# Altium integrated library TI Data Converters Analog to Digital Converter.IntLib: 2198 symbols (part 78 of 164)
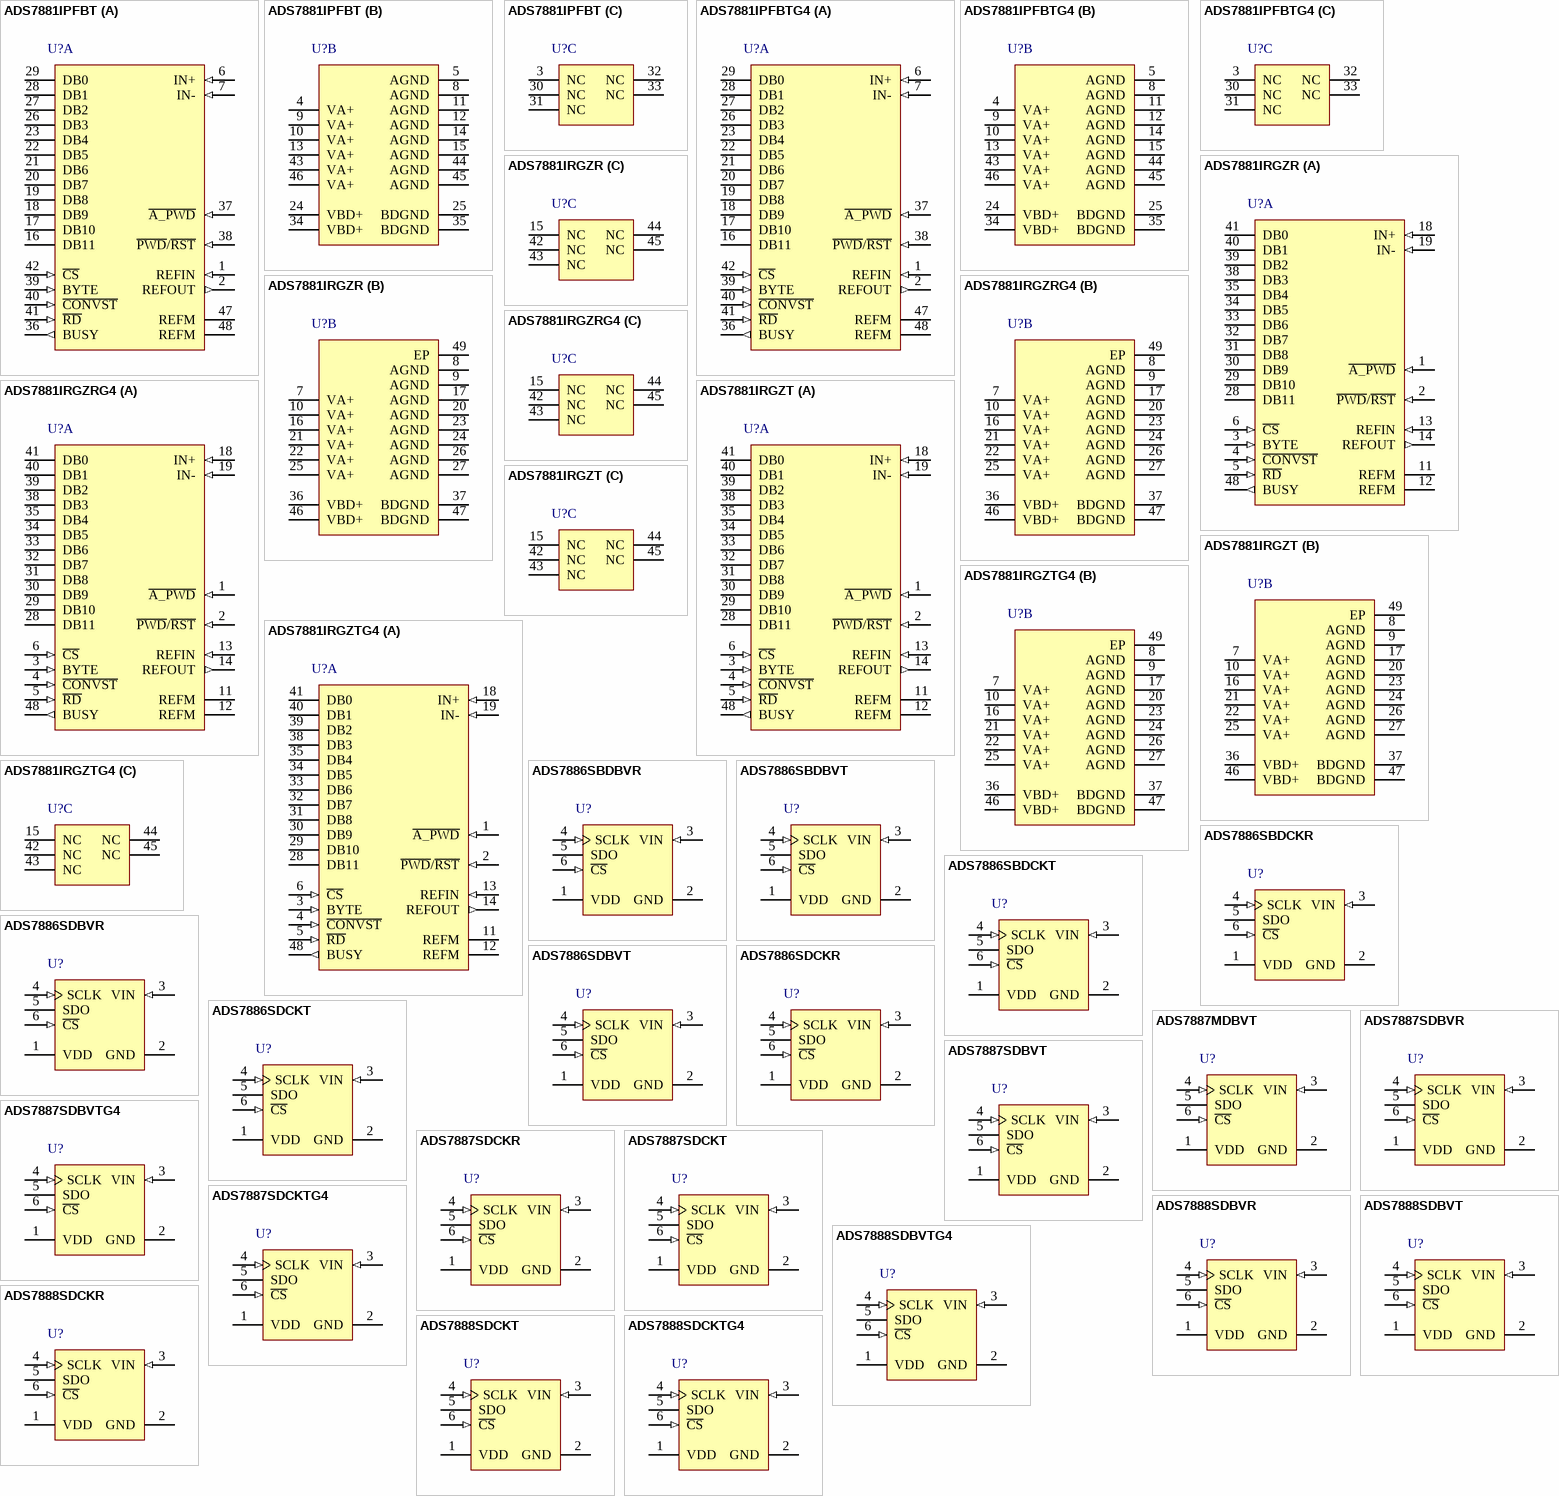
[diagram p203: symbols ADS7881IPFBT to ADS7888SDCKTG4]

## ADS7887SDBVR
designator U?
2.35 to 5.25 V, 10-Bit, 1.25 MSPS, Serial ADC, -40 to 125 degC, 6-pin SOT23 (DBV6), Pb-Free (RoHS Exempt); Manufacturer: Texas Instruments; PartNumber: ADS7887SDBVR; # Input Channels: 1; Analog Voltage AV/DD(Max)(V): 5.25; Analog Voltage AV/DD(Min)(V): 2.35; Architecture: SAR; INL(Max)(+/-LSB): 0.75; Interface: Serial SPI; Resolution(Bits): 10; Sample Rate (max)(SPS): 1.25M; SFDR(dB): 81; SINAD(dB): 61; SubFamily: Precision ADC (<=10MSPS); DatasheetVersion: SLAS468; PackageVersion: 4073253-5/K, 03/2006; PackageReference: DBV6; PackageDescription: 6-Pin Plastic Small Outline, Body 1.6 x 2.9 mm, Pitch 0.95 mm; Supplier 1: Digi-Key; Supplier Part Number 1: 296-1881-5-ND; Digital Supply(Max)(V): 5.25; Digital Supply(Min)(V): 2.35; Eco-Plan: Pb-Free (RoHS Exempt); SNR(dB): 61; Mounting Technology: Surface Mount; Code_JEDEC: MO-178; ComponentLink1Description: Manufacturer URL; ComponentLink1URL: http://www.ti.com/; ComponentLink2Description: Datasheet; ComponentLink2URL: http://www.ti.com/general/docs/lit/getliterature.tsp?genericPartNumber=ADS7887&fileType=pdf; ComponentLink3Description: Package Specification; ComponentLink3URL: http://www.ti.com/litv/pdf/mpds026h
footprint TI-DBV6_N (SOT23, 6-Leads, Body 2.9x1.6mm, Pitch 0.95mm, IPC Medium Density)
footprint TI-DBV6_L (SOT23, 6-Leads, Body 2.9x1.6mm, Pitch 0.95mm, IPC High Density)
footprint TI-DBV6_M (SOT23, 6-Leads, Body 2.9x1.6mm, Pitch 0.95mm, IPC Low Density)
pins: 1 VDD (power) "Power supply input also acts like a reference voltage to ADC.", 2 GND (power) "Ground for power supply, all analog and digital signals are referred with respect to this pin.", 3 VIN (in) "Analog signal input", 4 SCLK (in) "Serial clock", 5 SDO (hiz) "Serial data out", 6 ~{CS} (in) "Chip select signal, active low"

## ADS7887SDBVT
designator U?
2.35 to 5.25 V, 10-Bit, 1.25 MSPS, Serial ADC, -40 to 125 degC, 6-pin SOT23 (DBV6), Pb-Free (RoHS Exempt); Manufacturer: Texas Instruments; PartNumber: ADS7887SDBVT; # Input Channels: 1; Analog Voltage AV/DD(Max)(V): 5.25; Analog Voltage AV/DD(Min)(V): 2.35; Architecture: SAR; INL(Max)(+/-LSB): 0.75; Interface: Serial SPI; Resolution(Bits): 10; Sample Rate (max)(SPS): 1.25M; SFDR(dB): 81; SINAD(dB): 61; SubFamily: Precision ADC (<=10MSPS); DatasheetVersion: SLAS468; PackageVersion: 4073253-5/K, 03/2006; PackageReference: DBV6; PackageDescription: 6-Pin Plastic Small Outline, Body 1.6 x 2.9 mm, Pitch 0.95 mm; Supplier 1: Digi-Key; Supplier Part Number 1: TLV1570IDWG4-ND; Digital Supply(Max)(V): 5.25; Digital Supply(Min)(V): 2.35; Eco-Plan: Pb-Free (RoHS Exempt); SNR(dB): 61; Mounting Technology: Surface Mount; Code_JEDEC: MO-178; ComponentLink1Description: Manufacturer URL; ComponentLink1URL: http://www.ti.com/; ComponentLink2Description: Datasheet; ComponentLink2URL: http://www.ti.com/general/docs/lit/getliterature.tsp?genericPartNumber=ADS7887&fileType=pdf; ComponentLink3Description: Package Specification; ComponentLink3URL: http://www.ti.com/litv/pdf/mpds026h
footprint TI-DBV6_N (SOT23, 6-Leads, Body 2.9x1.6mm, Pitch 0.95mm, IPC Medium Density)
footprint TI-DBV6_L (SOT23, 6-Leads, Body 2.9x1.6mm, Pitch 0.95mm, IPC High Density)
footprint TI-DBV6_M (SOT23, 6-Leads, Body 2.9x1.6mm, Pitch 0.95mm, IPC Low Density)
pins: 1 VDD (power) "Power supply input also acts like a reference voltage to ADC.", 2 GND (power) "Ground for power supply, all analog and digital signals are referred with respect to this pin.", 3 VIN (in) "Analog signal input", 4 SCLK (in) "Serial clock", 5 SDO (hiz) "Serial data out", 6 ~{CS} (in) "Chip select signal, active low"

## ADS7887SDBVTG4
designator U?
2.35 to 5.25 V, 10-Bit, 1.25 MSPS, Serial ADC, -40 to 125 degC, 6-pin SOT23 (DBV6); Manufacturer: Texas Instruments; PartNumber: ADS7887SDBVTG4; # Input Channels: 1; Analog Voltage AV/DD(Max)(V): 5.25; Analog Voltage AV/DD(Min)(V): 2.35; Architecture: SAR; INL(Max)(+/-LSB): 0.75; Interface: Serial SPI; Resolution(Bits): 10; Sample Rate (max)(SPS): 1.25M; SFDR(dB): 81; SINAD(dB): 61; SubFamily: Precision ADC (<=10MSPS); DatasheetVersion: SLAS468; PackageVersion: 4073253-5/K, 03/2006; PackageReference: DBV6; PackageDescription: 6-Pin Plastic Small Outline, Body 1.6 x 2.9 mm, Pitch 0.95 mm; Supplier 1: Digi-Key; Supplier Part Number 1: 296-1882-5-ND; Digital Supply(Max)(V): 5.25; Digital Supply(Min)(V): 2.35; SNR(dB): 61; Mounting Technology: Surface Mount; Code_JEDEC: MO-178; ComponentLink1Description: Manufacturer URL; ComponentLink1URL: http://www.ti.com/; ComponentLink2Description: Datasheet; ComponentLink2URL: http://www.ti.com/general/docs/lit/getliterature.tsp?genericPartNumber=ADS7887&fileType=pdf; ComponentLink3Description: Package Specification; ComponentLink3URL: http://www.ti.com/litv/pdf/mpds026h
footprint TI-DBV6_N (SOT23, 6-Leads, Body 2.9x1.6mm, Pitch 0.95mm, IPC Medium Density)
footprint TI-DBV6_L (SOT23, 6-Leads, Body 2.9x1.6mm, Pitch 0.95mm, IPC High Density)
footprint TI-DBV6_M (SOT23, 6-Leads, Body 2.9x1.6mm, Pitch 0.95mm, IPC Low Density)
pins: 1 VDD (power) "Power supply input also acts like a reference voltage to ADC.", 2 GND (power) "Ground for power supply, all analog and digital signals are referred with respect to this pin.", 3 VIN (in) "Analog signal input", 4 SCLK (in) "Serial clock", 5 SDO (hiz) "Serial data out", 6 ~{CS} (in) "Chip select signal, active low"

## ADS7887SDCKR
designator U?
10-Bit, 1.25 MSPS, Serial ADC, -40 to 125 degC, 6-pin SOT23 (DCK6), Pb-Free (RoHS Exempt); Manufacturer: Texas Instruments; PartNumber: ADS7887SDCKR; # Input Channels: 1; Analog Voltage AV/DD(Max)(V): 5.25; Analog Voltage AV/DD(Min)(V): 2.35; Architecture: SAR; INL(Max)(+/-LSB): 0.75; Interface: Serial SPI; Resolution(Bits): 10; Sample Rate (max)(SPS): 1.25M; SFDR(dB): 81; SINAD(dB): 61; SubFamily: Precision ADC (<=10MSPS); DatasheetVersion: SLAS468; PackageVersion: 4093553-4/G, 01/2007; PackageReference: DCK6; PackageDescription: 6-Pin Plastic Small Outline, Body 2 x 1.25 mm, Pitch 0.65 mm; Supplier 1: Digi-Key; Supplier Part Number 1: TLV1570IPWG4-ND; Digital Supply(Max)(V): 5.25; Digital Supply(Min)(V): 2.35; Eco-Plan: Pb-Free (RoHS Exempt); SNR(dB): 61; Mounting Technology: Surface Mount; Code_JEDEC: MO-203; ComponentLink1Description: Manufacturer URL; ComponentLink1URL: http://www.ti.com/; ComponentLink2Description: Datasheet; ComponentLink2URL: http://www.ti.com/general/docs/lit/getliterature.tsp?genericPartNumber=ADS7887&fileType=pdf; ComponentLink3Description: Package Specification; ComponentLink3URL: http://www.ti.com/litv/pdf/mpds114c
footprint TI-DCK6_V (SOT23, 6-Leads, Body 2x1.25mm, Pitch 0.65mm)
pins: 1 VDD (power) "Power supply input also acts like a reference voltage to ADC.", 2 GND (power) "Ground for power supply, all analog and digital signals are referred with respect to this pin.", 3 VIN (in) "Analog signal input", 4 SCLK (in) "Serial clock", 5 SDO (hiz) "Serial data out", 6 ~{CS} (in) "Chip select signal, active low"

## ADS7887SDCKT
designator U?
10-Bit, 1.25 MSPS, Serial ADC, -40 to 125 degC, 6-pin SOT23 (DCK6), Pb-Free (RoHS Exempt); Manufacturer: Texas Instruments; PartNumber: ADS7887SDCKT; # Input Channels: 1; Analog Voltage AV/DD(Max)(V): 5.25; Analog Voltage AV/DD(Min)(V): 2.35; Architecture: SAR; INL(Max)(+/-LSB): 0.75; Interface: Serial SPI; Resolution(Bits): 10; Sample Rate (max)(SPS): 1.25M; SFDR(dB): 81; SINAD(dB): 61; SubFamily: Precision ADC (<=10MSPS); DatasheetVersion: SLAS468; PackageVersion: 4093553-4/G, 01/2007; PackageReference: DCK6; PackageDescription: 6-Pin Plastic Small Outline, Body 2 x 1.25 mm, Pitch 0.65 mm; Supplier 1: Digi-Key; Supplier Part Number 1: TLV1570IPWR-ND; Digital Supply(Max)(V): 5.25; Digital Supply(Min)(V): 2.35; Eco-Plan: Pb-Free (RoHS Exempt); SNR(dB): 61; Mounting Technology: Surface Mount; Code_JEDEC: MO-203; ComponentLink1Description: Manufacturer URL; ComponentLink1URL: http://www.ti.com/; ComponentLink2Description: Datasheet; ComponentLink2URL: http://www.ti.com/general/docs/lit/getliterature.tsp?genericPartNumber=ADS7887&fileType=pdf; ComponentLink3Description: Package Specification; ComponentLink3URL: http://www.ti.com/litv/pdf/mpds114c
footprint TI-DCK6_V (SOT23, 6-Leads, Body 2x1.25mm, Pitch 0.65mm)
pins: 1 VDD (power) "Power supply input also acts like a reference voltage to ADC.", 2 GND (power) "Ground for power supply, all analog and digital signals are referred with respect to this pin.", 3 VIN (in) "Analog signal input", 4 SCLK (in) "Serial clock", 5 SDO (hiz) "Serial data out", 6 ~{CS} (in) "Chip select signal, active low"

## ADS7887SDCKTG4
designator U?
10-Bit, 1.25 MSPS, Serial ADC, -40 to 125 degC, 6-pin SOT23 (DCK6); Manufacturer: Texas Instruments; PartNumber: ADS7887SDCKTG4; # Input Channels: 1; Analog Voltage AV/DD(Max)(V): 5.25; Analog Voltage AV/DD(Min)(V): 2.35; Architecture: SAR; INL(Max)(+/-LSB): 0.75; Interface: Serial SPI; Resolution(Bits): 10; Sample Rate (max)(SPS): 1.25M; SFDR(dB): 81; SINAD(dB): 61; SubFamily: Precision ADC (<=10MSPS); DatasheetVersion: SLAS468; PackageVersion: 4093553-4/G, 01/2007; PackageReference: DCK6; PackageDescription: 6-Pin Plastic Small Outline, Body 2 x 1.25 mm, Pitch 0.65 mm; Supplier 1: Digi-Key; Supplier Part Number 1: TLV1570IPWRG4-ND; Digital Supply(Max)(V): 5.25; Digital Supply(Min)(V): 2.35; SNR(dB): 61; Mounting Technology: Surface Mount; Code_JEDEC: MO-203; ComponentLink1Description: Manufacturer URL; ComponentLink1URL: http://www.ti.com/; ComponentLink2Description: Datasheet; ComponentLink2URL: http://www.ti.com/general/docs/lit/getliterature.tsp?genericPartNumber=ADS7887&fileType=pdf; ComponentLink3Description: Package Specification; ComponentLink3URL: http://www.ti.com/litv/pdf/mpds114c
footprint TI-DCK6_V (SOT23, 6-Leads, Body 2x1.25mm, Pitch 0.65mm)
pins: 1 VDD (power) "Power supply input also acts like a reference voltage to ADC.", 2 GND (power) "Ground for power supply, all analog and digital signals are referred with respect to this pin.", 3 VIN (in) "Analog signal input", 4 SCLK (in) "Serial clock", 5 SDO (hiz) "Serial data out", 6 ~{CS} (in) "Chip select signal, active low"

## ADS7888SDBVR
designator U?
2.35 to 5.25 V, 8-Bit, 1.25 MSPS, Serial ADC, -40 to 125 degC, 6-pin SOT23 (DBV6), Pb-Free (RoHS Exempt); Manufacturer: Texas Instruments; PartNumber: ADS7888SDBVR; # Input Channels: 1; Analog Voltage AV/DD(Max)(V): 5.25; Analog Voltage AV/DD(Min)(V): 2.35; Architecture: SAR; INL(Max)(+/-LSB): 0.3; Interface: Serial SPI; Resolution(Bits): 8; Sample Rate (max)(SPS): 1.25M; SFDR(dB): 77; SINAD(dB): 49.5; SubFamily: Precision ADC (<=10MSPS); DatasheetVersion: SLAS468; PackageVersion: 4073253-5/K, 03/2006; PackageReference: DBV6; PackageDescription: 6-Pin Plastic Small Outline, Body 1.6 x 2.9 mm, Pitch 0.95 mm; Supplier 1: Digi-Key; Supplier Part Number 1: 296-2966-5-ND; Digital Supply(Max)(V): 5.25; Digital Supply(Min)(V): 2.35; Eco-Plan: Pb-Free (RoHS Exempt); Mounting Technology: Surface Mount; Code_JEDEC: MO-178; ComponentLink1Description: Manufacturer URL; ComponentLink1URL: http://www.ti.com/; ComponentLink2Description: Datasheet; ComponentLink2URL: http://www.ti.com/general/docs/lit/getliterature.tsp?genericPartNumber=ADS7888&fileType=pdf; ComponentLink3Description: Package Specification; ComponentLink3URL: http://www.ti.com/litv/pdf/mpds026h
footprint TI-DBV6_N (SOT23, 6-Leads, Body 2.9x1.6mm, Pitch 0.95mm, IPC Medium Density)
footprint TI-DBV6_L (SOT23, 6-Leads, Body 2.9x1.6mm, Pitch 0.95mm, IPC High Density)
footprint TI-DBV6_M (SOT23, 6-Leads, Body 2.9x1.6mm, Pitch 0.95mm, IPC Low Density)
pins: 1 VDD (power) "Power supply input also acts like a reference voltage to ADC.", 2 GND (power) "Ground for power supply, all analog and digital signals are referred with respect to this pin.", 3 VIN (in) "Analog signal input", 4 SCLK (in) "Serial clock", 5 SDO (hiz) "Serial data out", 6 ~{CS} (in) "Chip select signal, active low"

## ADS7888SDBVT
designator U?
2.35 to 5.25 V, 8-Bit, 1.25 MSPS, Serial ADC, -40 to 125 degC, 6-pin SOT23 (DBV6), Pb-Free (RoHS Exempt); Manufacturer: Texas Instruments; PartNumber: ADS7888SDBVT; # Input Channels: 1; Analog Voltage AV/DD(Max)(V): 5.25; Analog Voltage AV/DD(Min)(V): 2.35; Architecture: SAR; INL(Max)(+/-LSB): 0.3; Interface: Serial SPI; Resolution(Bits): 8; Sample Rate (max)(SPS): 1.25M; SFDR(dB): 77; SINAD(dB): 49.5; SubFamily: Precision ADC (<=10MSPS); DatasheetVersion: SLAS468; PackageVersion: 4073253-5/K, 03/2006; PackageReference: DBV6; PackageDescription: 6-Pin Plastic Small Outline, Body 1.6 x 2.9 mm, Pitch 0.95 mm; Supplier 1: Digi-Key; Supplier Part Number 1: TLV1562CPWG4-ND; Digital Supply(Max)(V): 5.25; Digital Supply(Min)(V): 2.35; Eco-Plan: Pb-Free (RoHS Exempt); Mounting Technology: Surface Mount; Code_JEDEC: MO-178; ComponentLink1Description: Manufacturer URL; ComponentLink1URL: http://www.ti.com/; ComponentLink2Description: Datasheet; ComponentLink2URL: http://www.ti.com/general/docs/lit/getliterature.tsp?genericPartNumber=ADS7888&fileType=pdf; ComponentLink3Description: Package Specification; ComponentLink3URL: http://www.ti.com/litv/pdf/mpds026h
footprint TI-DBV6_N (SOT23, 6-Leads, Body 2.9x1.6mm, Pitch 0.95mm, IPC Medium Density)
footprint TI-DBV6_L (SOT23, 6-Leads, Body 2.9x1.6mm, Pitch 0.95mm, IPC High Density)
footprint TI-DBV6_M (SOT23, 6-Leads, Body 2.9x1.6mm, Pitch 0.95mm, IPC Low Density)
pins: 1 VDD (power) "Power supply input also acts like a reference voltage to ADC.", 2 GND (power) "Ground for power supply, all analog and digital signals are referred with respect to this pin.", 3 VIN (in) "Analog signal input", 4 SCLK (in) "Serial clock", 5 SDO (hiz) "Serial data out", 6 ~{CS} (in) "Chip select signal, active low"

## ADS7888SDBVTG4
designator U?
2.35 to 5.25 V, 8-Bit, 1.25 MSPS, Serial ADC, -40 to 125 degC, 6-pin SOT23 (DBV6); Manufacturer: Texas Instruments; PartNumber: ADS7888SDBVTG4; # Input Channels: 1; Analog Voltage AV/DD(Max)(V): 5.25; Analog Voltage AV/DD(Min)(V): 2.35; Architecture: SAR; INL(Max)(+/-LSB): 0.3; Interface: Serial SPI; Resolution(Bits): 8; Sample Rate (max)(SPS): 1.25M; SFDR(dB): 77; SINAD(dB): 49.5; SubFamily: Precision ADC (<=10MSPS); DatasheetVersion: SLAS468; PackageVersion: 4073253-5/K, 03/2006; PackageReference: DBV6; PackageDescription: 6-Pin Plastic Small Outline, Body 1.6 x 2.9 mm, Pitch 0.95 mm; Supplier 1: Digi-Key; Supplier Part Number 1: 296-1879-5-ND; Digital Supply(Max)(V): 5.25; Digital Supply(Min)(V): 2.35; Mounting Technology: Surface Mount; Code_JEDEC: MO-178; ComponentLink1Description: Manufacturer URL; ComponentLink1URL: http://www.ti.com/; ComponentLink2Description: Datasheet; ComponentLink2URL: http://www.ti.com/general/docs/lit/getliterature.tsp?genericPartNumber=ADS7888&fileType=pdf; ComponentLink3Description: Package Specification; ComponentLink3URL: http://www.ti.com/litv/pdf/mpds026h
footprint TI-DBV6_N (SOT23, 6-Leads, Body 2.9x1.6mm, Pitch 0.95mm, IPC Medium Density)
footprint TI-DBV6_L (SOT23, 6-Leads, Body 2.9x1.6mm, Pitch 0.95mm, IPC High Density)
footprint TI-DBV6_M (SOT23, 6-Leads, Body 2.9x1.6mm, Pitch 0.95mm, IPC Low Density)
pins: 1 VDD (power) "Power supply input also acts like a reference voltage to ADC.", 2 GND (power) "Ground for power supply, all analog and digital signals are referred with respect to this pin.", 3 VIN (in) "Analog signal input", 4 SCLK (in) "Serial clock", 5 SDO (hiz) "Serial data out", 6 ~{CS} (in) "Chip select signal, active low"

## ADS7888SDCKR
designator U?
2.35 to 5.25 V, 8-Bit, 1.25 MSPS, Serial ADC, -40 to 125 degC, 6-pin SOT23 (DCK6), Pb-Free (RoHS Exempt); Manufacturer: Texas Instruments; PartNumber: ADS7888SDCKR; # Input Channels: 1; Analog Voltage AV/DD(Max)(V): 5.25; Analog Voltage AV/DD(Min)(V): 2.35; Architecture: SAR; INL(Max)(+/-LSB): 0.3; Interface: Serial SPI; Resolution(Bits): 8; Sample Rate (max)(SPS): 1.25M; SFDR(dB): 77; SINAD(dB): 49.5; SubFamily: Precision ADC (<=10MSPS); DatasheetVersion: SLAS468; PackageVersion: 4093553-4/G, 01/2007; PackageReference: DCK6; PackageDescription: 6-Pin Plastic Small Outline, Body 2 x 1.25 mm, Pitch 0.65 mm; Supplier 1: Digi-Key; Supplier Part Number 1: TLV1562IDWG4-ND; Digital Supply(Max)(V): 5.25; Digital Supply(Min)(V): 2.35; Eco-Plan: Pb-Free (RoHS Exempt); Mounting Technology: Surface Mount; Code_JEDEC: MO-203; ComponentLink1Description: Manufacturer URL; ComponentLink1URL: http://www.ti.com/; ComponentLink2Description: Datasheet; ComponentLink2URL: http://www.ti.com/general/docs/lit/getliterature.tsp?genericPartNumber=ADS7888&fileType=pdf; ComponentLink3Description: Package Specification; ComponentLink3URL: http://www.ti.com/litv/pdf/mpds114c
footprint TI-DCK6_V (SOT23, 6-Leads, Body 2x1.25mm, Pitch 0.65mm)
pins: 1 VDD (power) "Power supply input also acts like a reference voltage to ADC.", 2 GND (power) "Ground for power supply, all analog and digital signals are referred with respect to this pin.", 3 VIN (in) "Analog signal input", 4 SCLK (in) "Serial clock", 5 SDO (hiz) "Serial data out", 6 ~{CS} (in) "Chip select signal, active low"

## ADS7888SDCKT
designator U?
2.35 to 5.25 V, 8-Bit, 1.25 MSPS, Serial ADC, -40 to 125 degC, 6-pin SOT23 (DCK6), Pb-Free (RoHS Exempt); Manufacturer: Texas Instruments; PartNumber: ADS7888SDCKT; # Input Channels: 1; Analog Voltage AV/DD(Max)(V): 5.25; Analog Voltage AV/DD(Min)(V): 2.35; Architecture: SAR; INL(Max)(+/-LSB): 0.3; Interface: Serial SPI; Resolution(Bits): 8; Sample Rate (max)(SPS): 1.25M; SFDR(dB): 77; SINAD(dB): 49.5; SubFamily: Precision ADC (<=10MSPS); DatasheetVersion: SLAS468; PackageVersion: 4093553-4/G, 01/2007; PackageReference: DCK6; PackageDescription: 6-Pin Plastic Small Outline, Body 2 x 1.25 mm, Pitch 0.65 mm; Supplier 1: Digi-Key; Supplier Part Number 1: 296-1880-5-ND; Digital Supply(Max)(V): 5.25; Digital Supply(Min)(V): 2.35; Eco-Plan: Pb-Free (RoHS Exempt); Mounting Technology: Surface Mount; Code_JEDEC: MO-203; ComponentLink1Description: Manufacturer URL; ComponentLink1URL: http://www.ti.com/; ComponentLink2Description: Datasheet; ComponentLink2URL: http://www.ti.com/general/docs/lit/getliterature.tsp?genericPartNumber=ADS7888&fileType=pdf; ComponentLink3Description: Package Specification; ComponentLink3URL: http://www.ti.com/litv/pdf/mpds114c
footprint TI-DCK6_V (SOT23, 6-Leads, Body 2x1.25mm, Pitch 0.65mm)
pins: 1 VDD (power) "Power supply input also acts like a reference voltage to ADC.", 2 GND (power) "Ground for power supply, all analog and digital signals are referred with respect to this pin.", 3 VIN (in) "Analog signal input", 4 SCLK (in) "Serial clock", 5 SDO (hiz) "Serial data out", 6 ~{CS} (in) "Chip select signal, active low"

## ADS7888SDCKTG4
designator U?
2.35 to 5.25 V, 8-Bit, 1.25 MSPS, Serial ADC, -40 to 125 degC, 6-pin SOT23 (DCK6); Manufacturer: Texas Instruments; PartNumber: ADS7888SDCKTG4; # Input Channels: 1; Analog Voltage AV/DD(Max)(V): 5.25; Analog Voltage AV/DD(Min)(V): 2.35; Architecture: SAR; INL(Max)(+/-LSB): 0.3; Interface: Serial SPI; Resolution(Bits): 8; Sample Rate (max)(SPS): 1.25M; SFDR(dB): 77; SINAD(dB): 49.5; SubFamily: Precision ADC (<=10MSPS); DatasheetVersion: SLAS468; PackageVersion: 4093553-4/G, 01/2007; PackageReference: DCK6; PackageDescription: 6-Pin Plastic Small Outline, Body 2 x 1.25 mm, Pitch 0.65 mm; Supplier 1: Digi-Key; Supplier Part Number 1: TLV1562IPWG4-ND; Digital Supply(Max)(V): 5.25; Digital Supply(Min)(V): 2.35; Mounting Technology: Surface Mount; Code_JEDEC: MO-203; ComponentLink1Description: Manufacturer URL; ComponentLink1URL: http://www.ti.com/; ComponentLink2Description: Datasheet; ComponentLink2URL: http://www.ti.com/general/docs/lit/getliterature.tsp?genericPartNumber=ADS7888&fileType=pdf; ComponentLink3Description: Package Specification; ComponentLink3URL: http://www.ti.com/litv/pdf/mpds114c
footprint TI-DCK6_V (SOT23, 6-Leads, Body 2x1.25mm, Pitch 0.65mm)
pins: 1 VDD (power) "Power supply input also acts like a reference voltage to ADC.", 2 GND (power) "Ground for power supply, all analog and digital signals are referred with respect to this pin.", 3 VIN (in) "Analog signal input", 4 SCLK (in) "Serial clock", 5 SDO (hiz) "Serial data out", 6 ~{CS} (in) "Chip select signal, active low"

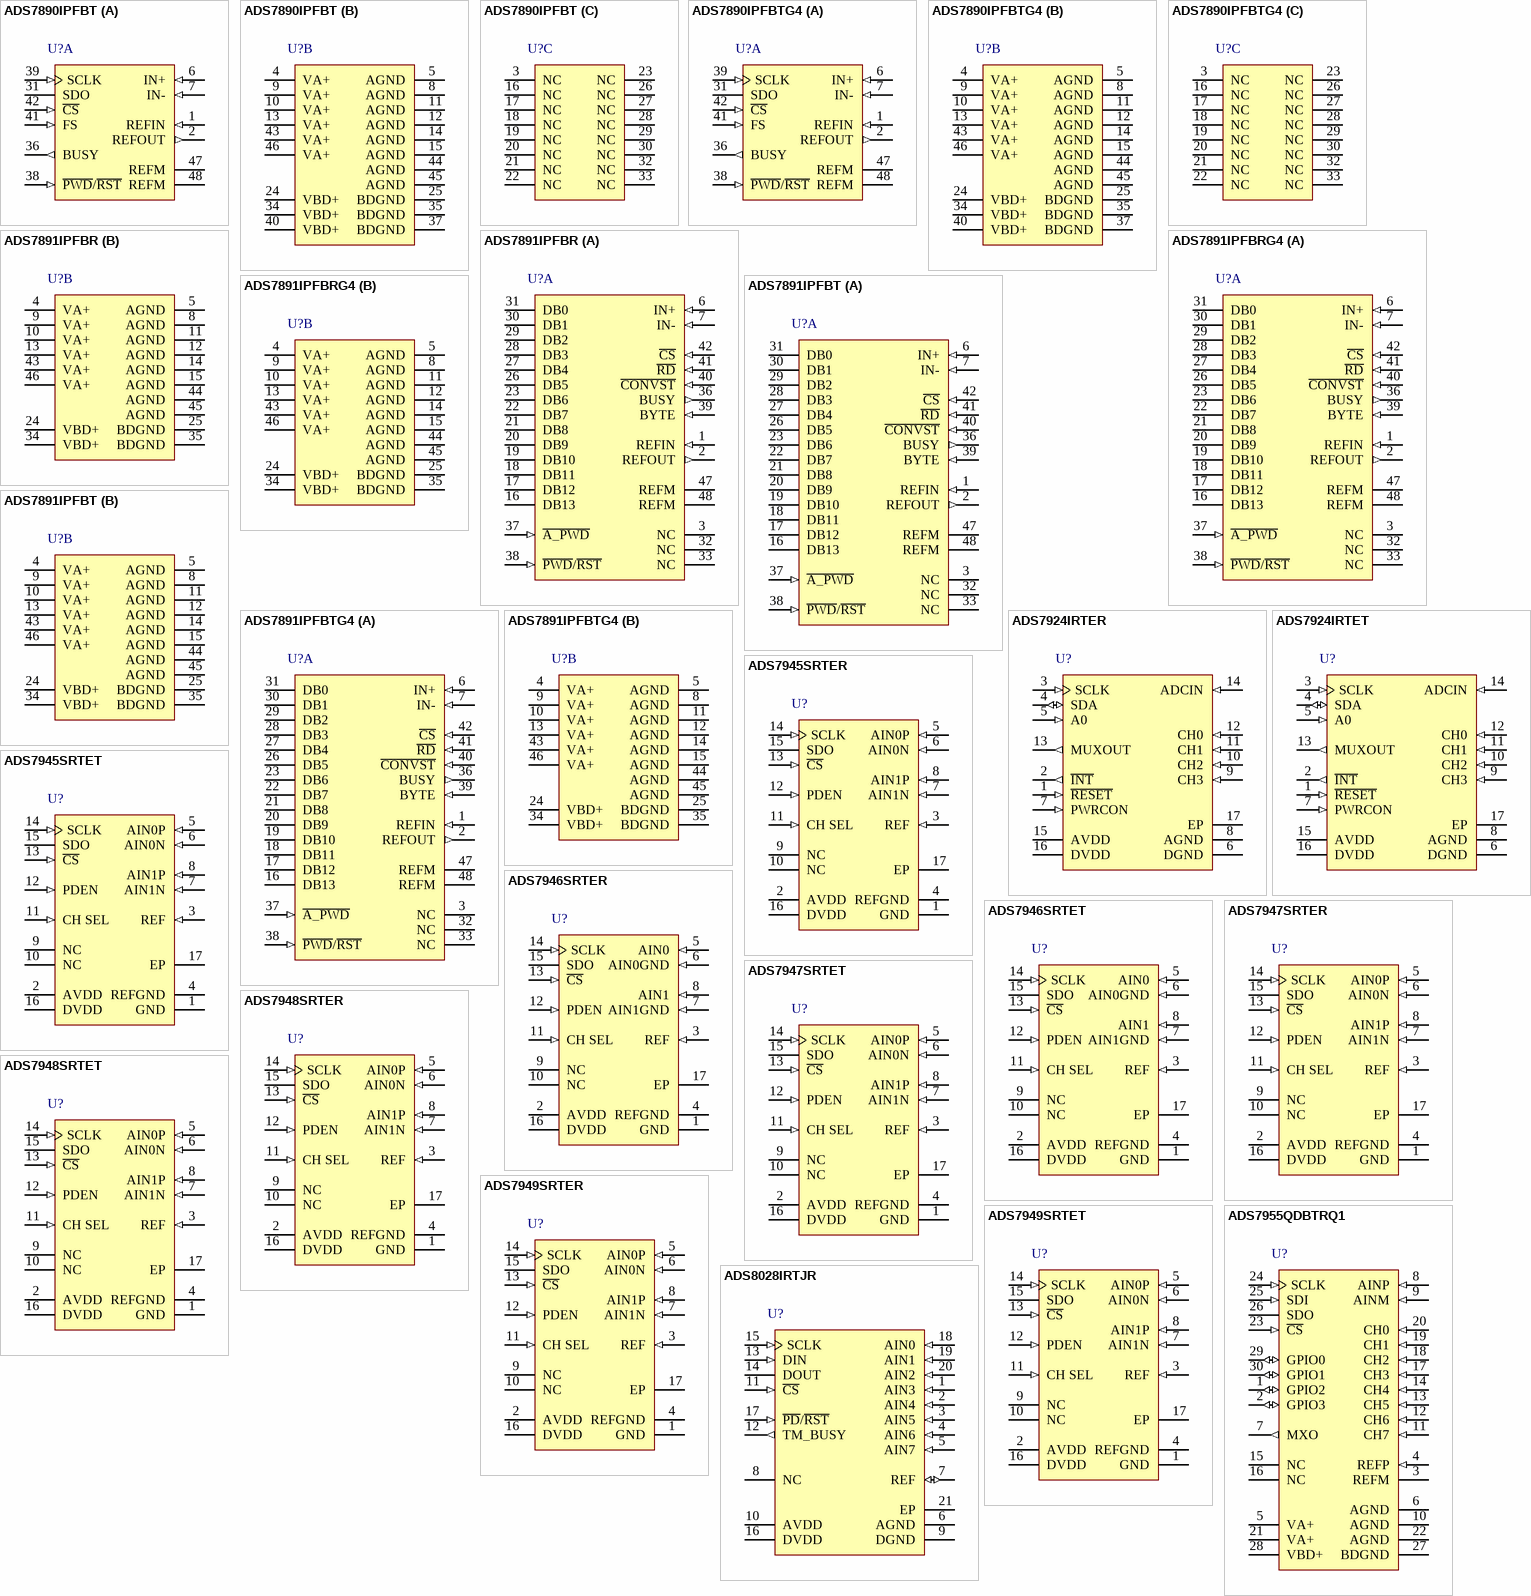
[diagram p71: symbols ADS7890IPFBT to ADS8028IRTJR]

## ADS7890IPFBT
designator U?
2.7 to 5.25 V Digital, 5 V Analog, 14-Bit, 1.25 MSPS, Serial ADC with Reference, -40 to 85 degC, 48-pin QFP (PFB48), Green (RoHS & no Sb/Br); Manufacturer: Texas Instruments; PartNumber: ADS7890IPFBT; # Input Channels: 1; Analog Voltage AV/DD(Max)(V): 5.25; Analog Voltage AV/DD(Min)(V): 4.75; Architecture: SAR; Digital Supply(Min)(V): 2.7; INL(Max)(+/-LSB): 1.5; Interface: Serial SPI; Resolution(Bits): 14; Sample Rate (max)(SPS): 1.25M; SFDR(dB): 97; SINAD(dB): 77; SNR(dB): 77.5; SubFamily: Precision ADC (<=10MSPS); DatasheetVersion: SLAS409; PackageVersion: 4073176/B, 10/1996; PackageReference: PFB48; PackageDescription: 48-Pin Plastic Flat Pack, Body 7 x 7 mm, Pitch 0.5 mm; Supplier 1: Digi-Key; Supplier Part Number 1: ADS7844E-ND; Digital Supply(Max)(V): 5.25; Eco-Plan: Green (RoHS & no Sb/Br); Mounting Technology: Surface Mount; Code_JEDEC: MS-026; ComponentLink1Description: Manufacturer URL; ComponentLink1URL: http://www.ti.com/; ComponentLink2Description: Datasheet; ComponentLink2URL: http://www.ti.com/general/docs/lit/getliterature.tsp?genericPartNumber=ADS7890&fileType=pdf; ComponentLink3Description: Package Specification; ComponentLink3URL: http://www.ti.com/lit/ml/mtqf019a/mtqf019a.pdf
footprint TI-PFB48_N (QFP, 48-Leads, Body 7x7mm, Pitch 0.5mm, IPC Medium Density)
footprint TI-PFB48_L (QFP, 48-Leads, Body 7x7mm, Pitch 0.5mm, IPC High Density)
footprint TI-PFB48_M (QFP, 48-Leads, Body 7x7mm, Pitch 0.5mm, IPC Low Density)
part A pins: 1 REFIN (in) "Reference (positive) input. Needs to be decoupled with REFM pin using 0.1-uF bypass capacitor and 1-uF storage capacitor.", 2 REFOUT (out) "Internal reference output. To be shorted to REFIN pin when internal reference is used. Do not connect to REFIN pin when external reference is used. Always needs to be decoupled with AGND using 0.1-uF bypass capacitor.", 6 IN+ (in) "Non inverting analog input channel", 7 IN- (in) "Inverting analog input channel", 31 SDO (hiz) "Serial data out. Data (excluding MSB) is latched out on the rising of SCLK with MSB first format. MSB is latched with the rising edge of FS or falling edge of CS depending on whether a DSP or SPI interface is used.", 36 BUSY (out) "Status output. This pin is high when a conversion is in progress.", 38 ~{PWD}/~{RST} (in) "Active low input, acts as device power down/device reset signal.", 39 SCLK (in) "Serial clock. The device needs a minimum of 16 clocks per frame. As described in the timing diagrams, it controls serial data out (first 14 clocks), powerup (from nap) on the 8th rising edge of SCLK, start of sample (track) (See Datasheet)", 41 FS (in) "Frame sync. The rising edge of FS starts a new sample and convert frame. The MSB from the previous conversion is latched out on the rising edge of FS. The rising edge of FS during an internal convert (see Figure 12) aborts (See Datasheet)", 42 ~{CS} (in) "Chip Select. Active low signal. The falling edge of C\S\ starts a new sample and convert frame. The MSB from the previous conversion is latched out on the falling edge of C\S\. This signal can be pulled high after the 16th (See Datasheet)", 47 REFM (power) "Reference ground. To be connected to analog ground plane.", 48 REFM (power) "Reference ground. To be connected to analog ground plane."
part B pins: 4 VA+ (power) "Analog power supplies. Refer to Table 2 for layout guidelines.", 5 AGND (power) "Analog ground pins. Need to be shorted to analog ground plane below the device.", 8 AGND (power) "Analog ground pins. Need to be shorted to analog ground plane below the device.", 9 VA+ (power) "Analog power supplies. Refer to Table 2 for layout guidelines.", 10 VA+ (power) "Analog power supplies. Refer to Table 2 for layout guidelines.", 11 AGND (power) "Analog ground pins. Need to be shorted to analog ground plane below the device.", 12 AGND (power) "Analog ground pins. Need to be shorted to analog ground plane below the device.", 13 VA+ (power) "Analog power supplies. Refer to Table 2 for layout guidelines.", 14 AGND (power) "Analog ground pins. Need to be shorted to analog ground plane below the device.", 15 AGND (power) "Analog ground pins. Need to be shorted to analog ground plane below the device.", 24 VBD+ (power) "Digital power supply for all digital inputs and outputs. Refer to Table 2 for layout guidelines.", 25 BDGND (power) "Digital ground for all digital inputs and outputs. Needs to be shorted to analog ground plane below the device.", 34 VBD+ (power) "Digital power supply for all digital inputs and outputs. Refer to Table 2 for layout guidelines.", 35 BDGND (power) "Digital ground for all digital inputs and outputs. Needs to be shorted to analog ground plane below the device.", 37 BDGND (power) "Digital ground for all digital inputs and outputs. Needs to be shorted to analog ground plane below the device.", 40 VBD+ (power) "Digital power supply for all digital inputs and outputs. Refer to Table 2 for layout guidelines.", 43 VA+ (power) "Analog power supplies. Refer to Table 2 for layout guidelines.", 44 AGND (power) "Analog ground pins. Need to be shorted to analog ground plane below the device.", 45 AGND (power) "Analog ground pins. Need to be shorted to analog ground plane below the device.", 46 VA+ (power) "Analog power supplies. Refer to Table 2 for layout guidelines."
part C pins: 3 NC "No connection pins.", 16 NC "No connection pins.", 17 NC "No connection pins.", 18 NC "No connection pins.", 19 NC "No connection pins.", 20 NC "No connection pins.", 21 NC "No connection pins.", 22 NC "No connection pins.", 23 NC "No connection pins.", 26 NC "No connection pins.", 27 NC "No connection pins.", 28 NC "No connection pins.", 29 NC "No connection pins.", 30 NC "No connection pins.", 32 NC "No connection pins.", 33 NC "No connection pins."

## ADS7890IPFBTG4
designator U?
2.7 to 5.25 V Digital, 5 V Analog, 14-Bit, 1.25 MSPS, Serial ADC with Reference, -40 to 85 degC, 48-pin QFP (PFB48), Green (RoHS & no Sb/Br); Manufacturer: Texas Instruments; PartNumber: ADS7890IPFBTG4; # Input Channels: 1; Analog Voltage AV/DD(Max)(V): 5.25; Analog Voltage AV/DD(Min)(V): 4.75; Architecture: SAR; Digital Supply(Min)(V): 2.7; INL(Max)(+/-LSB): 1.5; Interface: Serial SPI; Resolution(Bits): 14; Sample Rate (max)(SPS): 1.25M; SFDR(dB): 97; SINAD(dB): 77; SNR(dB): 77.5; SubFamily: Precision ADC (<=10MSPS); DatasheetVersion: SLAS409; PackageVersion: 4073176/B, 10/1996; PackageReference: PFB48; PackageDescription: 48-Pin Plastic Flat Pack, Body 7 x 7 mm, Pitch 0.5 mm; Supplier 1: Digi-Key; Supplier Part Number 1: ADS7844ETR-ND; Digital Supply(Max)(V): 5.25; Eco-Plan: Green (RoHS & no Sb/Br); Mounting Technology: Surface Mount; Code_JEDEC: MS-026; ComponentLink1Description: Manufacturer URL; ComponentLink1URL: http://www.ti.com/; ComponentLink2Description: Datasheet; ComponentLink2URL: http://www.ti.com/general/docs/lit/getliterature.tsp?genericPartNumber=ADS7890&fileType=pdf; ComponentLink3Description: Package Specification; ComponentLink3URL: http://www.ti.com/lit/ml/mtqf019a/mtqf019a.pdf
footprint TI-PFB48_N (QFP, 48-Leads, Body 7x7mm, Pitch 0.5mm, IPC Medium Density)
footprint TI-PFB48_L (QFP, 48-Leads, Body 7x7mm, Pitch 0.5mm, IPC High Density)
footprint TI-PFB48_M (QFP, 48-Leads, Body 7x7mm, Pitch 0.5mm, IPC Low Density)
part A pins: 1 REFIN (in) "Reference (positive) input. Needs to be decoupled with REFM pin using 0.1-uF bypass capacitor and 1-uF storage capacitor.", 2 REFOUT (out) "Internal reference output. To be shorted to REFIN pin when internal reference is used. Do not connect to REFIN pin when external reference is used. Always needs to be decoupled with AGND using 0.1-uF bypass capacitor.", 6 IN+ (in) "Non inverting analog input channel", 7 IN- (in) "Inverting analog input channel", 31 SDO (hiz) "Serial data out. Data (excluding MSB) is latched out on the rising of SCLK with MSB first format. MSB is latched with the rising edge of FS or falling edge of CS depending on whether a DSP or SPI interface is used.", 36 BUSY (out) "Status output. This pin is high when a conversion is in progress.", 38 ~{PWD}/~{RST} (in) "Active low input, acts as device power down/device reset signal.", 39 SCLK (in) "Serial clock. The device needs a minimum of 16 clocks per frame. As described in the timing diagrams, it controls serial data out (first 14 clocks), powerup (from nap) on the 8th rising edge of SCLK, start of sample (track) (See Datasheet)", 41 FS (in) "Frame sync. The rising edge of FS starts a new sample and convert frame. The MSB from the previous conversion is latched out on the rising edge of FS. The rising edge of FS during an internal convert (see Figure 12) aborts (See Datasheet)", 42 ~{CS} (in) "Chip Select. Active low signal. The falling edge of C\S\ starts a new sample and convert frame. The MSB from the previous conversion is latched out on the falling edge of C\S\. This signal can be pulled high after the 16th (See Datasheet)", 47 REFM (power) "Reference ground. To be connected to analog ground plane.", 48 REFM (power) "Reference ground. To be connected to analog ground plane."
part B pins: 4 VA+ (power) "Analog power supplies. Refer to Table 2 for layout guidelines.", 5 AGND (power) "Analog ground pins. Need to be shorted to analog ground plane below the device.", 8 AGND (power) "Analog ground pins. Need to be shorted to analog ground plane below the device.", 9 VA+ (power) "Analog power supplies. Refer to Table 2 for layout guidelines.", 10 VA+ (power) "Analog power supplies. Refer to Table 2 for layout guidelines.", 11 AGND (power) "Analog ground pins. Need to be shorted to analog ground plane below the device.", 12 AGND (power) "Analog ground pins. Need to be shorted to analog ground plane below the device.", 13 VA+ (power) "Analog power supplies. Refer to Table 2 for layout guidelines.", 14 AGND (power) "Analog ground pins. Need to be shorted to analog ground plane below the device.", 15 AGND (power) "Analog ground pins. Need to be shorted to analog ground plane below the device.", 24 VBD+ (power) "Digital power supply for all digital inputs and outputs. Refer to Table 2 for layout guidelines.", 25 BDGND (power) "Digital ground for all digital inputs and outputs. Needs to be shorted to analog ground plane below the device.", 34 VBD+ (power) "Digital power supply for all digital inputs and outputs. Refer to Table 2 for layout guidelines.", 35 BDGND (power) "Digital ground for all digital inputs and outputs. Needs to be shorted to analog ground plane below the device.", 37 BDGND (power) "Digital ground for all digital inputs and outputs. Needs to be shorted to analog ground plane below the device.", 40 VBD+ (power) "Digital power supply for all digital inputs and outputs. Refer to Table 2 for layout guidelines.", 43 VA+ (power) "Analog power supplies. Refer to Table 2 for layout guidelines.", 44 AGND (power) "Analog ground pins. Need to be shorted to analog ground plane below the device.", 45 AGND (power) "Analog ground pins. Need to be shorted to analog ground plane below the device.", 46 VA+ (power) "Analog power supplies. Refer to Table 2 for layout guidelines."
part C pins: 3 NC "No connection pins.", 16 NC "No connection pins.", 17 NC "No connection pins.", 18 NC "No connection pins.", 19 NC "No connection pins.", 20 NC "No connection pins.", 21 NC "No connection pins.", 22 NC "No connection pins.", 23 NC "No connection pins.", 26 NC "No connection pins.", 27 NC "No connection pins.", 28 NC "No connection pins.", 29 NC "No connection pins.", 30 NC "No connection pins.", 32 NC "No connection pins.", 33 NC "No connection pins."

## ADS7891IPFBR
designator U?
2.7 to 5.25 V Digital, 5 V Analog, 14-Bit, 3 MSPS, Parallel ADC with Reference, -40 to 85 degC, 48-pin QFP (PFB48), Green (RoHS & no Sb/Br); Manufacturer: Texas Instruments; PartNumber: ADS7891IPFBR; # Input Channels: 1; Analog Voltage AV/DD(Max)(V): 5.25; Analog Voltage AV/DD(Min)(V): 4.75; Architecture: SAR; Digital Supply(Min)(V): 2.7; INL(Max)(+/-LSB): 1.5; Interface: Parallel CMOS; Resolution(Bits): 14; Sample Rate (max)(SPS): 3M; SFDR(dB): 90; SINAD(dB): 77; SNR(dB): 78; SubFamily: Precision ADC (<=10MSPS); DatasheetVersion: SLAS410; PackageVersion: 4073176/B, 10/1996; PackageReference: PFB48; PackageDescription: 48-Pin Plastic Flat Pack, Body 7 x 7 mm, Pitch 0.5 mm; Supplier 1: Digi-Key; Supplier Part Number 1: ADS7844E/2K5G4-ND; Digital Supply(Max)(V): 5.25; Eco-Plan: Green (RoHS & no Sb/Br); Mounting Technology: Surface Mount; Code_JEDEC: MS-026; ComponentLink1Description: Manufacturer URL; ComponentLink1URL: http://www.ti.com/; ComponentLink2Description: Datasheet; ComponentLink2URL: http://www.ti.com/general/docs/lit/getliterature.tsp?genericPartNumber=ADS7891&fileType=pdf; ComponentLink3Description: Package Specification; ComponentLink3URL: http://www.ti.com/lit/ml/mtqf019a/mtqf019a.pdf
footprint TI-PFB48_N (QFP, 48-Leads, Body 7x7mm, Pitch 0.5mm, IPC Medium Density)
footprint TI-PFB48_L (QFP, 48-Leads, Body 7x7mm, Pitch 0.5mm, IPC High Density)
footprint TI-PFB48_M (QFP, 48-Leads, Body 7x7mm, Pitch 0.5mm, IPC Low Density)
part A pins: 1 REFIN (in) "Reference (positive) input. Needs to be decoupled with REFM pin using 0.1-uF bypass capacitor and 1-uF storage capacitor.", 2 REFOUT (out) "Internal reference output. To be shorted to REFIN pin when internal reference is used. Do not connect to REFIN pin when external reference is used. Always needs to be decoupled with AGND using 0.1-uF bypass capacitor.", 3 NC "No connection pins.", 6 IN+ (in) "Non inverting analog input channel", 7 IN- (in) "Inverting analog input channel", 16 DB13 (hiz), 17 DB12 (hiz), 18 DB11 (hiz), 19 DB10 (hiz), 20 DB9 (hiz), 21 DB8 (hiz), 22 DB7 (hiz), 23 DB6 (hiz), 26 DB5 (hiz), 27 DB4 (hiz), 28 DB3 (hiz), 29 DB2 (hiz), 30 DB1 (hiz), 31 DB0 (hiz), 32 NC "No connection pins.", 33 NC "No connection pins.", 36 BUSY (out) "Status output. This pin is high when a conversion is in progress.", 37 ~{A_PWD} (in) "Nap mode enable, active low", 38 ~{PWD}/~{RST} (in) "Active low input, acts as device power down/device reset signal.", 39 BYTE (in) "Byte select input. Used for 8-bit bus reading. 0: No fold back. 1: Lower byte D[5:0] is folded back to high byte so D5 is available in D13 place.", 40 ~{CONVST} (in) "Conversion start. The rising edge starts the acquisition. The falling edge of this input ends the acquisition and starts the conversion. Refer to the timing diagrams for more details.", 41 ~{RD} (in) "Active low synchronization pulse for the parallel output. When C\S\ is low, this serves as the output enable and puts the previous conversion results on the bus.", 42 ~{CS} (in) "Chip Select. Active low signal enables chip operation like acquisition start, conversion start, bus release from 3-state. Refer to the timing diagrams for more details.", 47 REFM (power) "Reference ground. To be connected to analog ground plane.", 48 REFM (power) "Reference ground. To be connected to analog ground plane."
part B pins: 4 VA+ (power) "Analog power supplies. Refer to Table 3 for layout guidelines.", 5 AGND (power) "Analog ground pins. Need to be shorted to analog ground plane below the device.", 8 AGND (power) "Analog ground pins. Need to be shorted to analog ground plane below the device.", 9 VA+ (power) "Analog power supplies. Refer to Table 3 for layout guidelines.", 10 VA+ (power) "Analog power supplies. Refer to Table 3 for layout guidelines.", 11 AGND (power) "Analog ground pins. Need to be shorted to analog ground plane below the device.", 12 AGND (power) "Analog ground pins. Need to be shorted to analog ground plane below the device.", 13 VA+ (power) "Analog power supplies. Refer to Table 3 for layout guidelines.", 14 AGND (power) "Analog ground pins. Need to be shorted to analog ground plane below the device.", 15 AGND (power) "Analog ground pins. Need to be shorted to analog ground plane below the device.", 24 VBD+ (power) "Digital power supply for all digital inputs and outputs. Refer to Table 3 for layout guidelines.", 25 BDGND (power) "Digital ground for all digital inputs and outputs. Needs to be shorted to analog ground plane below the device.", 34 VBD+ (power) "Digital power supply for all digital inputs and outputs. Refer to Table 3 for layout guidelines.", 35 BDGND (power) "Digital ground for all digital inputs and outputs. Needs to be shorted to analog ground plane below the device.", 43 VA+ (power) "Analog power supplies. Refer to Table 3 for layout guidelines.", 44 AGND (power) "Analog ground pins. Need to be shorted to analog ground plane below the device.", 45 AGND (power) "Analog ground pins. Need to be shorted to analog ground plane below the device.", 46 VA+ (power) "Analog power supplies. Refer to Table 3 for layout guidelines."

## ADS7891IPFBRG4
designator U?
2.7 to 5.25 V Digital, 5 V Analog, 14-Bit, 3 MSPS, Parallel ADC with Reference, -40 to 85 degC, 48-pin QFP (PFB48), Green (RoHS & no Sb/Br); Manufacturer: Texas Instruments; PartNumber: ADS7891IPFBRG4; # Input Channels: 1; Analog Voltage AV/DD(Max)(V): 5.25; Analog Voltage AV/DD(Min)(V): 4.75; Architecture: SAR; Digital Supply(Min)(V): 2.7; INL(Max)(+/-LSB): 1.5; Interface: Parallel CMOS; Resolution(Bits): 14; Sample Rate (max)(SPS): 3M; SFDR(dB): 90; SINAD(dB): 77; SNR(dB): 78; SubFamily: Precision ADC (<=10MSPS); DatasheetVersion: SLAS410; PackageVersion: 4073176/B, 10/1996; PackageReference: PFB48; PackageDescription: 48-Pin Plastic Flat Pack, Body 7 x 7 mm, Pitch 0.5 mm; Supplier 1: Digi-Key; Supplier Part Number 1: ADS7844EB-ND; Digital Supply(Max)(V): 5.25; Eco-Plan: Green (RoHS & no Sb/Br); Mounting Technology: Surface Mount; Code_JEDEC: MS-026; ComponentLink1Description: Manufacturer URL; ComponentLink1URL: http://www.ti.com/; ComponentLink2Description: Datasheet; ComponentLink2URL: http://www.ti.com/general/docs/lit/getliterature.tsp?genericPartNumber=ADS7891&fileType=pdf; ComponentLink3Description: Package Specification; ComponentLink3URL: http://www.ti.com/lit/ml/mtqf019a/mtqf019a.pdf
footprint TI-PFB48_N (QFP, 48-Leads, Body 7x7mm, Pitch 0.5mm, IPC Medium Density)
footprint TI-PFB48_L (QFP, 48-Leads, Body 7x7mm, Pitch 0.5mm, IPC High Density)
footprint TI-PFB48_M (QFP, 48-Leads, Body 7x7mm, Pitch 0.5mm, IPC Low Density)
part A pins: 1 REFIN (in) "Reference (positive) input. Needs to be decoupled with REFM pin using 0.1-uF bypass capacitor and 1-uF storage capacitor.", 2 REFOUT (out) "Internal reference output. To be shorted to REFIN pin when internal reference is used. Do not connect to REFIN pin when external reference is used. Always needs to be decoupled with AGND using 0.1-uF bypass capacitor.", 3 NC "No connection pins.", 6 IN+ (in) "Non inverting analog input channel", 7 IN- (in) "Inverting analog input channel", 16 DB13 (hiz), 17 DB12 (hiz), 18 DB11 (hiz), 19 DB10 (hiz), 20 DB9 (hiz), 21 DB8 (hiz), 22 DB7 (hiz), 23 DB6 (hiz), 26 DB5 (hiz), 27 DB4 (hiz), 28 DB3 (hiz), 29 DB2 (hiz), 30 DB1 (hiz), 31 DB0 (hiz), 32 NC "No connection pins.", 33 NC "No connection pins.", 36 BUSY (out) "Status output. This pin is high when a conversion is in progress.", 37 ~{A_PWD} (in) "Nap mode enable, active low", 38 ~{PWD}/~{RST} (in) "Active low input, acts as device power down/device reset signal.", 39 BYTE (in) "Byte select input. Used for 8-bit bus reading. 0: No fold back. 1: Lower byte D[5:0] is folded back to high byte so D5 is available in D13 place.", 40 ~{CONVST} (in) "Conversion start. The rising edge starts the acquisition. The falling edge of this input ends the acquisition and starts the conversion. Refer to the timing diagrams for more details.", 41 ~{RD} (in) "Active low synchronization pulse for the parallel output. When C\S\ is low, this serves as the output enable and puts the previous conversion results on the bus.", 42 ~{CS} (in) "Chip Select. Active low signal enables chip operation like acquisition start, conversion start, bus release from 3-state. Refer to the timing diagrams for more details.", 47 REFM (power) "Reference ground. To be connected to analog ground plane.", 48 REFM (power) "Reference ground. To be connected to analog ground plane."
part B pins: 4 VA+ (power) "Analog power supplies. Refer to Table 3 for layout guidelines.", 5 AGND (power) "Analog ground pins. Need to be shorted to analog ground plane below the device.", 8 AGND (power) "Analog ground pins. Need to be shorted to analog ground plane below the device.", 9 VA+ (power) "Analog power supplies. Refer to Table 3 for layout guidelines.", 10 VA+ (power) "Analog power supplies. Refer to Table 3 for layout guidelines.", 11 AGND (power) "Analog ground pins. Need to be shorted to analog ground plane below the device.", 12 AGND (power) "Analog ground pins. Need to be shorted to analog ground plane below the device.", 13 VA+ (power) "Analog power supplies. Refer to Table 3 for layout guidelines.", 14 AGND (power) "Analog ground pins. Need to be shorted to analog ground plane below the device.", 15 AGND (power) "Analog ground pins. Need to be shorted to analog ground plane below the device.", 24 VBD+ (power) "Digital power supply for all digital inputs and outputs. Refer to Table 3 for layout guidelines.", 25 BDGND (power) "Digital ground for all digital inputs and outputs. Needs to be shorted to analog ground plane below the device.", 34 VBD+ (power) "Digital power supply for all digital inputs and outputs. Refer to Table 3 for layout guidelines.", 35 BDGND (power) "Digital ground for all digital inputs and outputs. Needs to be shorted to analog ground plane below the device.", 43 VA+ (power) "Analog power supplies. Refer to Table 3 for layout guidelines.", 44 AGND (power) "Analog ground pins. Need to be shorted to analog ground plane below the device.", 45 AGND (power) "Analog ground pins. Need to be shorted to analog ground plane below the device.", 46 VA+ (power) "Analog power supplies. Refer to Table 3 for layout guidelines."

## ADS7891IPFBT
designator U?
2.7 to 5.25 V Digital, 5 V Analog, 14-Bit, 3 MSPS, Parallel ADC with Reference, -40 to 85 degC, 48-pin QFP (PFB48), Green (RoHS & no Sb/Br); Manufacturer: Texas Instruments; PartNumber: ADS7891IPFBT; # Input Channels: 1; Analog Voltage AV/DD(Max)(V): 5.25; Analog Voltage AV/DD(Min)(V): 4.75; Architecture: SAR; Digital Supply(Min)(V): 2.7; INL(Max)(+/-LSB): 1.5; Interface: Parallel CMOS; Resolution(Bits): 14; Sample Rate (max)(SPS): 3M; SFDR(dB): 90; SINAD(dB): 77; SNR(dB): 78; SubFamily: Precision ADC (<=10MSPS); DatasheetVersion: SLAS410; PackageVersion: 4073176/B, 10/1996; PackageReference: PFB48; PackageDescription: 48-Pin Plastic Flat Pack, Body 7 x 7 mm, Pitch 0.5 mm; Supplier 1: Digi-Key; Supplier Part Number 1: ADS7844EBTR-ND; Digital Supply(Max)(V): 5.25; Eco-Plan: Green (RoHS & no Sb/Br); Mounting Technology: Surface Mount; Code_JEDEC: MS-026; ComponentLink1Description: Manufacturer URL; ComponentLink1URL: http://www.ti.com/; ComponentLink2Description: Datasheet; ComponentLink2URL: http://www.ti.com/general/docs/lit/getliterature.tsp?genericPartNumber=ADS7891&fileType=pdf; ComponentLink3Description: Package Specification; ComponentLink3URL: http://www.ti.com/lit/ml/mtqf019a/mtqf019a.pdf
footprint TI-PFB48_N (QFP, 48-Leads, Body 7x7mm, Pitch 0.5mm, IPC Medium Density)
footprint TI-PFB48_L (QFP, 48-Leads, Body 7x7mm, Pitch 0.5mm, IPC High Density)
footprint TI-PFB48_M (QFP, 48-Leads, Body 7x7mm, Pitch 0.5mm, IPC Low Density)
part A pins: 1 REFIN (in) "Reference (positive) input. Needs to be decoupled with REFM pin using 0.1-uF bypass capacitor and 1-uF storage capacitor.", 2 REFOUT (out) "Internal reference output. To be shorted to REFIN pin when internal reference is used. Do not connect to REFIN pin when external reference is used. Always needs to be decoupled with AGND using 0.1-uF bypass capacitor.", 3 NC "No connection pins.", 6 IN+ (in) "Non inverting analog input channel", 7 IN- (in) "Inverting analog input channel", 16 DB13 (hiz), 17 DB12 (hiz), 18 DB11 (hiz), 19 DB10 (hiz), 20 DB9 (hiz), 21 DB8 (hiz), 22 DB7 (hiz), 23 DB6 (hiz), 26 DB5 (hiz), 27 DB4 (hiz), 28 DB3 (hiz), 29 DB2 (hiz), 30 DB1 (hiz), 31 DB0 (hiz), 32 NC "No connection pins.", 33 NC "No connection pins.", 36 BUSY (out) "Status output. This pin is high when a conversion is in progress.", 37 ~{A_PWD} (in) "Nap mode enable, active low", 38 ~{PWD}/~{RST} (in) "Active low input, acts as device power down/device reset signal.", 39 BYTE (in) "Byte select input. Used for 8-bit bus reading. 0: No fold back. 1: Lower byte D[5:0] is folded back to high byte so D5 is available in D13 place.", 40 ~{CONVST} (in) "Conversion start. The rising edge starts the acquisition. The falling edge of this input ends the acquisition and starts the conversion. Refer to the timing diagrams for more details.", 41 ~{RD} (in) "Active low synchronization pulse for the parallel output. When C\S\ is low, this serves as the output enable and puts the previous conversion results on the bus.", 42 ~{CS} (in) "Chip Select. Active low signal enables chip operation like acquisition start, conversion start, bus release from 3-state. Refer to the timing diagrams for more details.", 47 REFM (power) "Reference ground. To be connected to analog ground plane.", 48 REFM (power) "Reference ground. To be connected to analog ground plane."
part B pins: 4 VA+ (power) "Analog power supplies. Refer to Table 3 for layout guidelines.", 5 AGND (power) "Analog ground pins. Need to be shorted to analog ground plane below the device.", 8 AGND (power) "Analog ground pins. Need to be shorted to analog ground plane below the device.", 9 VA+ (power) "Analog power supplies. Refer to Table 3 for layout guidelines.", 10 VA+ (power) "Analog power supplies. Refer to Table 3 for layout guidelines.", 11 AGND (power) "Analog ground pins. Need to be shorted to analog ground plane below the device.", 12 AGND (power) "Analog ground pins. Need to be shorted to analog ground plane below the device.", 13 VA+ (power) "Analog power supplies. Refer to Table 3 for layout guidelines.", 14 AGND (power) "Analog ground pins. Need to be shorted to analog ground plane below the device.", 15 AGND (power) "Analog ground pins. Need to be shorted to analog ground plane below the device.", 24 VBD+ (power) "Digital power supply for all digital inputs and outputs. Refer to Table 3 for layout guidelines.", 25 BDGND (power) "Digital ground for all digital inputs and outputs. Needs to be shorted to analog ground plane below the device.", 34 VBD+ (power) "Digital power supply for all digital inputs and outputs. Refer to Table 3 for layout guidelines.", 35 BDGND (power) "Digital ground for all digital inputs and outputs. Needs to be shorted to analog ground plane below the device.", 43 VA+ (power) "Analog power supplies. Refer to Table 3 for layout guidelines.", 44 AGND (power) "Analog ground pins. Need to be shorted to analog ground plane below the device.", 45 AGND (power) "Analog ground pins. Need to be shorted to analog ground plane below the device.", 46 VA+ (power) "Analog power supplies. Refer to Table 3 for layout guidelines."